# EAGLE library part IC-OPAMP-DUAL-* (library elpp-v1.1)
Operational amplifier, dual.
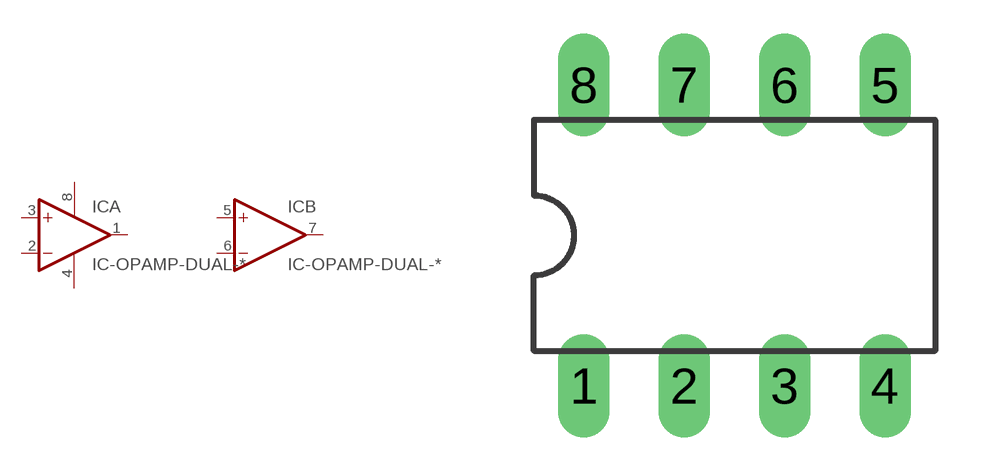
[diagram p2: symbol with the pads of EPP-DIP-8; footprint EPP-DIP-8]

Designator prefix IC; gates A=OPAMP B=OPAMP P=PWR+-

## IC-OPAMP-DUAL-LM358 (FARNELL: 2295980; RS: 7613546), IC-OPAMP-DUAL-NE5532A (FARNELL: 1106091; RS: 4363046), IC-OPAMP-DUAL-TL072 (FARNELL: 1106015; RS: 304239)  [EPP-DIP-8]
1  A:OUT  out
2  A:-IN  in
3  A:+IN  in
4  P:V-  pas
5  B:+IN  in
6  B:-IN  in
7  B:OUT  out
8  P:V+  pas

## Footprint EPP-DIP-8 (pad centres in mm)
Dual In Line (DIL), 8-way
drill 0.8 long: 1 -3.81,-3.81; 2 -1.27,-3.81; 3 1.27,-3.81; 4 3.81,-3.81; 5 3.81,3.81; 6 1.27,3.81; 7 -1.27,3.81; 8 -3.81,3.81